# Altium integrated library ON Semi General Purpose Transistors.IntLib: 1679 symbols (part 22 of 36)
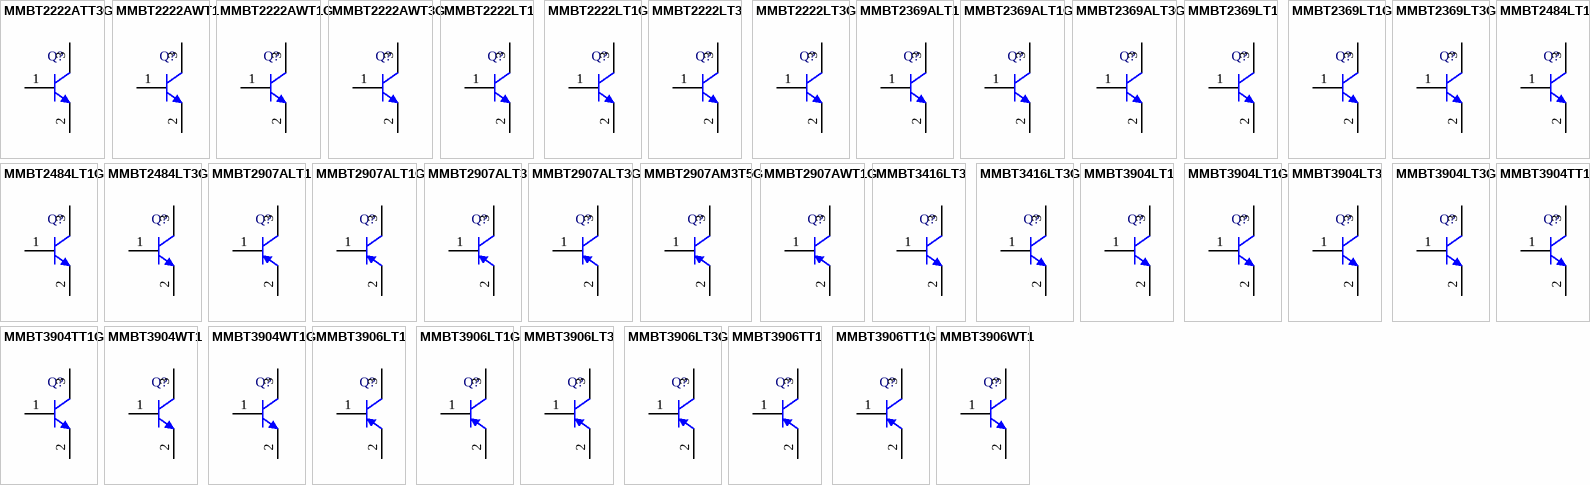
[diagram p66: symbols MMBT2222ATT3G to MMBT3906WT1]

## MMBT2222AWT3G
designator Q?
General Purpose Transistor, NPN Silicon, 3-Pin SC70, Pb-Free, Tape and Reel; Manufacturer: On Semiconductor; PartNumber: MMBT2222AWT3G; fT Min (MHz): 300; IC Continuous (A): 0.6; DatasheetVersion: Rev. 6; PackageVersion: Rev. N, 11/2008; PackageReference: SC-70-3-419-04; PackageDescription: 3-Pin Small Outline Transistor, Body 2 x 1.25 mm, Pitch 0.65 mm; Supplier 1: Digi-Key; Supplier Part Number 1: MMBT2222AWT3G-ND; Supplier 2: Mouser; Supplier Part Number 2: 863-MMBT2222AWT3G; Packing: Tape and Reel; Polarity: NPN; RoHS: TRUE; Mounting Technology: Surface Mount; ComponentLink1Description: Manufacturer URL; ComponentLink1URL: http://www.onsemi.com/; ComponentLink2Description: Datasheet; ComponentLink2URL: http://www.onsemi.cn/pub_link/Collateral/MMBT2222AWT1-D.PDF; ComponentLink3Description: Package Specification; ComponentLink3URL: http://www.onsemi.cn/pub_link/Collateral/419-04.PDF
footprint ONSC-SC-70-3-419-04_V (SOT23, 3-Leads, Body 2x1.25mm, Pitch 0.65mm)
pins: 1 B, 2 E, 3 C

## MMBT2222LT1
designator Q?
General Purpose Transistor, NPN Silicon, 3-Pin SOT-23, Tape and Reel; Manufacturer: On Semiconductor; PartNumber: MMBT2222LT1; fT Min (MHz): 250; IC Continuous (A): 0.6; DatasheetVersion: Rev. 10; PackageVersion: Rev. AP, 11/2009; PackageReference: SOT-23-3-318-08; PackageDescription: 3-Pin Small Outline Transistor, Body 2.92 x 1.3 mm, Pitch 0.95 mm; Supplier 1: Digi-Key; Supplier Part Number 1: MMBT2222LT1OSCT-ND; Packing: Tape and Reel; Polarity: NPN; RoHS: FALSE; Mounting Technology: Surface Mount; ComponentLink1Description: Manufacturer URL; ComponentLink1URL: http://www.onsemi.com/; ComponentLink2Description: Datasheet; ComponentLink2URL: http://www.onsemi.cn/pub_link/Collateral/MMBT2222LT1-D.PDF; ComponentLink3Description: Package Specification; ComponentLink3URL: http://www.onsemi.cn/pub_link/Collateral/318-08.PDF
footprint ONSC-SOT-23-3-318-08_V (SOT23, 3-Leads, Body 2.92x1.3mm, Pitch 0.95mm)
pins: 1 B, 2 E, 3 C

## MMBT2222LT1G
designator Q?
General Purpose Transistor, NPN Silicon, 3-Pin SOT-23, Pb-Free, Tape and Reel; Manufacturer: On Semiconductor; PartNumber: MMBT2222LT1G; fT Min (MHz): 250; IC Continuous (A): 0.6; DatasheetVersion: Rev. 10; PackageVersion: Rev. AP, 11/2009; PackageReference: SOT-23-3-318-08; PackageDescription: 3-Pin Small Outline Transistor, Body 2.92 x 1.3 mm, Pitch 0.95 mm; Supplier 1: Digi-Key; Supplier Part Number 1: MMBT2222LT1GOSTR-ND; Supplier 2: Digi-Key; Supplier Part Number 2: MMBT2222LT1GOSCT-ND; Supplier 3: Digi-Key; Supplier Part Number 3: MMBT2222LT1GOSDKR-ND; Supplier 4: Farnell; Supplier Part Number 4: 2317832; Supplier 5: Newark; Supplier Part Number 5: 45J1530; Supplier 6: Newark; Supplier Part Number 6: 67R1336; Supplier 7: Mouser; Supplier Part Number 7: 863-MMBT2222LT1G; Packing: Tape and Reel; Polarity: NPN; RoHS: TRUE; Mounting Technology: Surface Mount; ComponentLink1Description: Manufacturer URL; ComponentLink1URL: http://www.onsemi.com/; ComponentLink2Description: Datasheet; ComponentLink2URL: http://www.onsemi.cn/pub_link/Collateral/MMBT2222LT1-D.PDF; ComponentLink3Description: Package Specification; ComponentLink3URL: http://www.onsemi.cn/pub_link/Collateral/318-08.PDF
footprint ONSC-SOT-23-3-318-08_V (SOT23, 3-Leads, Body 2.92x1.3mm, Pitch 0.95mm)
pins: 1 B, 2 E, 3 C

## MMBT2222LT3
designator Q?
General Purpose Transistor, NPN Silicon, 3-Pin SOT-23, Tape and Reel; Manufacturer: On Semiconductor; PartNumber: MMBT2222LT3; fT Min (MHz): 250; IC Continuous (A): 0.6; DatasheetVersion: Rev. 10; PackageVersion: Rev. AP, 11/2009; PackageReference: SOT-23-3-318-08; PackageDescription: 3-Pin Small Outline Transistor, Body 2.92 x 1.3 mm, Pitch 0.95 mm; Supplier 1: Digi-Key; Supplier Part Number 1: MMBT2222LT3-ND; Supplier 2: Mouser; Supplier Part Number 2: 863-MMBT2222LT3; Packing: Tape and Reel; Polarity: NPN; RoHS: FALSE; Mounting Technology: Surface Mount; ComponentLink1Description: Manufacturer URL; ComponentLink1URL: http://www.onsemi.com/; ComponentLink2Description: Datasheet; ComponentLink2URL: http://www.onsemi.cn/pub_link/Collateral/MMBT2222LT1-D.PDF; ComponentLink3Description: Package Specification; ComponentLink3URL: http://www.onsemi.cn/pub_link/Collateral/318-08.PDF
footprint ONSC-SOT-23-3-318-08_V (SOT23, 3-Leads, Body 2.92x1.3mm, Pitch 0.95mm)
pins: 1 B, 2 E, 3 C

## MMBT2222LT3G
designator Q?
General Purpose Transistor, NPN Silicon, 3-Pin SOT-23, Pb-Free, Tape and Reel; Manufacturer: On Semiconductor; PartNumber: MMBT2222LT3G; fT Min (MHz): 250; IC Continuous (A): 0.6; DatasheetVersion: Rev. 10; PackageVersion: Rev. AP, 11/2009; PackageReference: SOT-23-3-318-08; PackageDescription: 3-Pin Small Outline Transistor, Body 2.92 x 1.3 mm, Pitch 0.95 mm; Supplier 1: Digi-Key; Supplier Part Number 1: MMBT2222LT3G-ND; Supplier 2: Mouser; Supplier Part Number 2: 863-MMBT2222LT3G; Packing: Tape and Reel; Polarity: NPN; RoHS: TRUE; Mounting Technology: Surface Mount; ComponentLink1Description: Manufacturer URL; ComponentLink1URL: http://www.onsemi.com/; ComponentLink2Description: Datasheet; ComponentLink2URL: http://www.onsemi.cn/pub_link/Collateral/MMBT2222LT1-D.PDF; ComponentLink3Description: Package Specification; ComponentLink3URL: http://www.onsemi.cn/pub_link/Collateral/318-08.PDF
footprint ONSC-SOT-23-3-318-08_V (SOT23, 3-Leads, Body 2.92x1.3mm, Pitch 0.95mm)
pins: 1 B, 2 E, 3 C

## MMBT2369ALT1
designator Q?
Switching Transistor, NPN Silicon, 3-Pin SOT-23, Tape and Reel; Manufacturer: On Semiconductor; PartNumber: MMBT2369ALT1; IC Continuous (A): 0.2; DatasheetVersion: Rev. 8; PackageVersion: Rev. AP, 11/2009; PackageReference: SOT-23-3-318-08; PackageDescription: 3-Pin Small Outline Transistor, Body 2.92 x 1.3 mm, Pitch 0.95 mm; Supplier 1: Digi-Key; Supplier Part Number 1: MMBT2369ALT1OSCT-ND; Packing: Tape and Reel; Polarity: NPN; RoHS: FALSE; Mounting Technology: Surface Mount; ComponentLink1Description: Manufacturer URL; ComponentLink1URL: http://www.onsemi.com/; ComponentLink2Description: Datasheet; ComponentLink2URL: http://www.onsemi.cn/pub_link/Collateral/MMBT2369LT1-D.PDF; ComponentLink3Description: Package Specification; ComponentLink3URL: http://www.onsemi.cn/pub_link/Collateral/318-08.PDF
footprint ONSC-SOT-23-3-318-08_V (SOT23, 3-Leads, Body 2.92x1.3mm, Pitch 0.95mm)
pins: 1 B, 2 E, 3 C

## MMBT2369ALT1G
designator Q?
Switching Transistor, NPN Silicon, 3-Pin SOT-23, Pb-Free, Tape and Reel; Manufacturer: On Semiconductor; PartNumber: MMBT2369ALT1G; IC Continuous (A): 0.2; DatasheetVersion: Rev. 8; PackageVersion: Rev. AP, 11/2009; PackageReference: SOT-23-3-318-08; PackageDescription: 3-Pin Small Outline Transistor, Body 2.92 x 1.3 mm, Pitch 0.95 mm; Supplier 1: Digi-Key; Supplier Part Number 1: MMBT2369ALT1GOSTR-ND; Supplier 2: Digi-Key; Supplier Part Number 2: MMBT2369ALT1GOSCT-ND; Supplier 3: Digi-Key; Supplier Part Number 3: MMBT2369ALT1GOSDKR-ND; Supplier 4: Farnell; Supplier Part Number 4: 1653624RL; Supplier 5: Farnell; Supplier Part Number 5: 1653624; Supplier 6: Farnell; Supplier Part Number 6: 2370818; Supplier 7: Newark; Supplier Part Number 7: 67R1337; Supplier 8: Newark; Supplier Part Number 8: 98H0749; Supplier 9: Mouser; Supplier Part Number 9: 863-MMBT2369ALT1G; Packing: Tape and Reel; Polarity: NPN; RoHS: TRUE; Mounting Technology: Surface Mount; ComponentLink1Description: Manufacturer URL; ComponentLink1URL: http://www.onsemi.com/; ComponentLink2Description: Datasheet; ComponentLink2URL: http://www.onsemi.cn/pub_link/Collateral/MMBT2369LT1-D.PDF; ComponentLink3Description: Package Specification; ComponentLink3URL: http://www.onsemi.cn/pub_link/Collateral/318-08.PDF
footprint ONSC-SOT-23-3-318-08_V (SOT23, 3-Leads, Body 2.92x1.3mm, Pitch 0.95mm)
pins: 1 B, 2 E, 3 C

## MMBT2369ALT3G
designator Q?
Switching Transistor, NPN Silicon, 3-Pin SOT-23, Pb-Free, Tape and Reel; Manufacturer: On Semiconductor; PartNumber: MMBT2369ALT3G; IC Continuous (A): 0.2; DatasheetVersion: Rev. 8; PackageVersion: Rev. AP, 11/2009; PackageReference: SOT-23-3-318-08; PackageDescription: 3-Pin Small Outline Transistor, Body 2.92 x 1.3 mm, Pitch 0.95 mm; Supplier 1: Digi-Key; Supplier Part Number 1: MMBT2369ALT3G-ND; Supplier 2: Mouser; Supplier Part Number 2: 863-MMBT2369ALT3G; Packing: Tape and Reel; Polarity: NPN; RoHS: TRUE; Mounting Technology: Surface Mount; ComponentLink1Description: Manufacturer URL; ComponentLink1URL: http://www.onsemi.com/; ComponentLink2Description: Datasheet; ComponentLink2URL: http://www.onsemi.cn/pub_link/Collateral/MMBT2369LT1-D.PDF; ComponentLink3Description: Package Specification; ComponentLink3URL: http://www.onsemi.cn/pub_link/Collateral/318-08.PDF
footprint ONSC-SOT-23-3-318-08_V (SOT23, 3-Leads, Body 2.92x1.3mm, Pitch 0.95mm)
pins: 1 B, 2 E, 3 C

## MMBT2369LT1
designator Q?
Switching Transistor, NPN Silicon, 3-Pin SOT-23, Tape and Reel; Manufacturer: On Semiconductor; PartNumber: MMBT2369LT1; IC Continuous (A): 0.2; DatasheetVersion: Rev. 8; PackageVersion: Rev. AP, 11/2009; PackageReference: SOT-23-3-318-08; PackageDescription: 3-Pin Small Outline Transistor, Body 2.92 x 1.3 mm, Pitch 0.95 mm; Supplier 1: Digi-Key; Supplier Part Number 1: MMBT2369LT1OSCT-ND; Packing: Tape and Reel; Polarity: NPN; RoHS: FALSE; Mounting Technology: Surface Mount; ComponentLink1Description: Manufacturer URL; ComponentLink1URL: http://www.onsemi.com/; ComponentLink2Description: Datasheet; ComponentLink2URL: http://www.onsemi.cn/pub_link/Collateral/MMBT2369LT1-D.PDF; ComponentLink3Description: Package Specification; ComponentLink3URL: http://www.onsemi.cn/pub_link/Collateral/318-08.PDF
footprint ONSC-SOT-23-3-318-08_V (SOT23, 3-Leads, Body 2.92x1.3mm, Pitch 0.95mm)
pins: 1 B, 2 E, 3 C

## MMBT2369LT1G
designator Q?
Switching Transistor, NPN Silicon, 3-Pin SOT-23, Pb-Free, Tape and Reel; Manufacturer: On Semiconductor; PartNumber: MMBT2369LT1G; IC Continuous (A): 0.2; DatasheetVersion: Rev. 8; PackageVersion: Rev. AP, 11/2009; PackageReference: SOT-23-3-318-08; PackageDescription: 3-Pin Small Outline Transistor, Body 2.92 x 1.3 mm, Pitch 0.95 mm; Supplier 1: Digi-Key; Supplier Part Number 1: MMBT2369LT1GOSTR-ND; Supplier 2: Digi-Key; Supplier Part Number 2: MMBT2369LT1GOSCT-ND; Supplier 3: Digi-Key; Supplier Part Number 3: MMBT2369LT1GOSDKR-ND; Supplier 4: Farnell; Supplier Part Number 4: 1147820; Supplier 5: Newark; Supplier Part Number 5: 45J1532; Supplier 6: Mouser; Supplier Part Number 6: 863-MMBT2369LT1G; Packing: Tape and Reel; Polarity: NPN; RoHS: TRUE; Mounting Technology: Surface Mount; ComponentLink1Description: Manufacturer URL; ComponentLink1URL: http://www.onsemi.com/; ComponentLink2Description: Datasheet; ComponentLink2URL: http://www.onsemi.cn/pub_link/Collateral/MMBT2369LT1-D.PDF; ComponentLink3Description: Package Specification; ComponentLink3URL: http://www.onsemi.cn/pub_link/Collateral/318-08.PDF
footprint ONSC-SOT-23-3-318-08_V (SOT23, 3-Leads, Body 2.92x1.3mm, Pitch 0.95mm)
pins: 1 B, 2 E, 3 C

## MMBT2369LT3G
designator Q?
Switching Transistor, NPN Silicon, 3-Pin SOT-23, Pb-Free, Tape and Reel; Manufacturer: On Semiconductor; PartNumber: MMBT2369LT3G; IC Continuous (A): 0.2; DatasheetVersion: Rev. 8; PackageVersion: Rev. AP, 11/2009; PackageReference: SOT-23-3-318-08; PackageDescription: 3-Pin Small Outline Transistor, Body 2.92 x 1.3 mm, Pitch 0.95 mm; Supplier 1: Digi-Key; Supplier Part Number 1: MMBT2369LT3G-ND; Supplier 2: Newark; Supplier Part Number 2: 16M4500; Supplier 3: Mouser; Supplier Part Number 3: 863-MMBT2369LT3G; Packing: Tape and Reel; Polarity: NPN; RoHS: TRUE; Mounting Technology: Surface Mount; ComponentLink1Description: Manufacturer URL; ComponentLink1URL: http://www.onsemi.com/; ComponentLink2Description: Datasheet; ComponentLink2URL: http://www.onsemi.cn/pub_link/Collateral/MMBT2369LT1-D.PDF; ComponentLink3Description: Package Specification; ComponentLink3URL: http://www.onsemi.cn/pub_link/Collateral/318-08.PDF
footprint ONSC-SOT-23-3-318-08_V (SOT23, 3-Leads, Body 2.92x1.3mm, Pitch 0.95mm)
pins: 1 B, 2 E, 3 C

## MMBT2484LT1
designator Q?
Low Noise Transistor, NPN Silicon, 3-Pin SOT-23, Tape and Reel; Manufacturer: On Semiconductor; PartNumber: MMBT2484LT1; IC Continuous (A): 0.1; DatasheetVersion: Rev. 4; PackageVersion: Rev. AP, 11/2009; PackageReference: SOT-23-3-318-08; PackageDescription: 3-Pin Small Outline Transistor, Body 2.92 x 1.3 mm, Pitch 0.95 mm; Supplier 1: Digi-Key; Supplier Part Number 1: MMBT2484LT1OSCT-ND; Packing: Tape and Reel; Polarity: NPN; RoHS: FALSE; Mounting Technology: Surface Mount; ComponentLink1Description: Manufacturer URL; ComponentLink1URL: http://www.onsemi.com/; ComponentLink2Description: Datasheet; ComponentLink2URL: http://www.onsemi.cn/pub_link/Collateral/MMBT2484LT1-D.PDF; ComponentLink3Description: Package Specification; ComponentLink3URL: http://www.onsemi.cn/pub_link/Collateral/318-08.PDF
footprint ONSC-SOT-23-3-318-08_V (SOT23, 3-Leads, Body 2.92x1.3mm, Pitch 0.95mm)
pins: 1 B, 2 E, 3 C

## MMBT2484LT1G
designator Q?
Low Noise Transistor, NPN Silicon, 3-Pin SOT-23, Pb-Free, Tape and Reel; Manufacturer: On Semiconductor; PartNumber: MMBT2484LT1G; IC Continuous (A): 0.1; DatasheetVersion: Rev. 4; PackageVersion: Rev. AP, 11/2009; PackageReference: SOT-23-3-318-08; PackageDescription: 3-Pin Small Outline Transistor, Body 2.92 x 1.3 mm, Pitch 0.95 mm; Supplier 1: Digi-Key; Supplier Part Number 1: MMBT2484LT1GOSTR-ND; Supplier 2: Digi-Key; Supplier Part Number 2: MMBT2484LT1GOSCT-ND; Supplier 3: Digi-Key; Supplier Part Number 3: MMBT2484LT1GOSDKR-ND; Supplier 4: Farnell; Supplier Part Number 4: 1150473; Supplier 5: Newark; Supplier Part Number 5: 45J1533; Supplier 6: Mouser; Supplier Part Number 6: 863-MMBT2484LT1G; Packing: Tape and Reel; Polarity: NPN; RoHS: TRUE; Mounting Technology: Surface Mount; ComponentLink1Description: Manufacturer URL; ComponentLink1URL: http://www.onsemi.com/; ComponentLink2Description: Datasheet; ComponentLink2URL: http://www.onsemi.cn/pub_link/Collateral/MMBT2484LT1-D.PDF; ComponentLink3Description: Package Specification; ComponentLink3URL: http://www.onsemi.cn/pub_link/Collateral/318-08.PDF
footprint ONSC-SOT-23-3-318-08_V (SOT23, 3-Leads, Body 2.92x1.3mm, Pitch 0.95mm)
pins: 1 B, 2 E, 3 C

## MMBT2484LT3G
designator Q?
Low Noise Transistor, NPN Silicon, 3-Pin SOT-23, Pb-Free, Tape and Reel; Manufacturer: On Semiconductor; PartNumber: MMBT2484LT3G; IC Continuous (A): 0.1; DatasheetVersion: Rev. 4; PackageVersion: Rev. AP, 11/2009; PackageReference: SOT-23-3-318-08; PackageDescription: 3-Pin Small Outline Transistor, Body 2.92 x 1.3 mm, Pitch 0.95 mm; Supplier 1: Digi-Key; Supplier Part Number 1: MMBT2484LT3G-ND; Supplier 2: Newark; Supplier Part Number 2: 16M4501; Supplier 3: Mouser; Supplier Part Number 3: 863-MMBT2484LT3G; Packing: Tape and Reel; Polarity: NPN; RoHS: TRUE; Mounting Technology: Surface Mount; ComponentLink1Description: Manufacturer URL; ComponentLink1URL: http://www.onsemi.com/; ComponentLink2Description: Datasheet; ComponentLink2URL: http://www.onsemi.cn/pub_link/Collateral/MMBT2484LT1-D.PDF; ComponentLink3Description: Package Specification; ComponentLink3URL: http://www.onsemi.cn/pub_link/Collateral/318-08.PDF
footprint ONSC-SOT-23-3-318-08_V (SOT23, 3-Leads, Body 2.92x1.3mm, Pitch 0.95mm)
pins: 1 B, 2 E, 3 C

## MMBT2907ALT1
designator Q?
General Purpose Transistor, PNP Silicon, 3-Pin SOT-23, Tape and Reel; Manufacturer: On Semiconductor; PartNumber: MMBT2907ALT1; fT Min (MHz): 200; IC Continuous (A): -0.6; DatasheetVersion: Rev. 13; PackageVersion: Rev. AP, 11/2009; PackageReference: SOT-23-3-318-08; PackageDescription: 3-Pin Small Outline Transistor, Body 2.92 x 1.3 mm, Pitch 0.95 mm; Supplier 1: Digi-Key; Supplier Part Number 1: MMBT2907ALT1OSCT-ND; Packing: Tape and Reel; Polarity: PNP; RoHS: FALSE; Mounting Technology: Surface Mount; ComponentLink1Description: Manufacturer URL; ComponentLink1URL: http://www.onsemi.com/; ComponentLink2Description: Datasheet; ComponentLink2URL: http://www.onsemi.cn/pub_link/Collateral/MMBT2907ALT1-D.PDF; ComponentLink3Description: Package Specification; ComponentLink3URL: http://www.onsemi.cn/pub_link/Collateral/318-08.PDF
footprint ONSC-SOT-23-3-318-08_V (SOT23, 3-Leads, Body 2.92x1.3mm, Pitch 0.95mm)
pins: 1 B, 2 E, 3 C

## MMBT2907ALT1G
designator Q?
General Purpose Transistor, PNP Silicon, 3-Pin SOT-23, Pb-Free, Tape and Reel; Manufacturer: On Semiconductor; PartNumber: MMBT2907ALT1G; fT Min (MHz): 200; IC Continuous (A): -0.6; DatasheetVersion: Rev. 13; PackageVersion: Rev. AP, 11/2009; PackageReference: SOT-23-3-318-08; PackageDescription: 3-Pin Small Outline Transistor, Body 2.92 x 1.3 mm, Pitch 0.95 mm; Supplier 1: Digi-Key; Supplier Part Number 1: MMBT2907ALT1GOSTR-ND; Supplier 2: Digi-Key; Supplier Part Number 2: MMBT2907ALT1GOSCT-ND; Supplier 3: Digi-Key; Supplier Part Number 3: MMBT2907ALT1GOSDKR-ND; Supplier 4: Farnell; Supplier Part Number 4: 1459099; Supplier 5: Farnell; Supplier Part Number 5: 1459099RL; Supplier 6: Farnell; Supplier Part Number 6: 2317920; Supplier 7: Newark; Supplier Part Number 7: 88H4785; Supplier 8: Newark; Supplier Part Number 8: 67R1338; Supplier 9: Mouser; Supplier Part Number 9: 863-MMBT2907ALT1G; Packing: Tape and Reel; Polarity: PNP; RoHS: TRUE; Mounting Technology: Surface Mount; ComponentLink1Description: Manufacturer URL; ComponentLink1URL: http://www.onsemi.com/; ComponentLink2Description: Datasheet; ComponentLink2URL: http://www.onsemi.cn/pub_link/Collateral/MMBT2907ALT1-D.PDF; ComponentLink3Description: Package Specification; ComponentLink3URL: http://www.onsemi.cn/pub_link/Collateral/318-08.PDF
footprint ONSC-SOT-23-3-318-08_V (SOT23, 3-Leads, Body 2.92x1.3mm, Pitch 0.95mm)
pins: 1 B, 2 E, 3 C

## MMBT2907ALT3
designator Q?
General Purpose Transistor, PNP Silicon, 3-Pin SOT-23, Tape and Reel; Manufacturer: On Semiconductor; PartNumber: MMBT2907ALT3; Note: 0; fT Min (MHz): 200; IC Continuous (A): -0.6; DatasheetVersion: Rev. 13; PackageVersion: Rev. AP, 11/2009; PackageReference: SOT-23-3-318-08; PackageDescription: 3-Pin Small Outline Transistor, Body 2.92 x 1.3 mm, Pitch 0.95 mm; Packing: Tape and Reel; Polarity: PNP; RoHS: FALSE; Mounting Technology: Surface Mount; ComponentLink1Description: Manufacturer URL; ComponentLink1URL: http://www.onsemi.com/; ComponentLink2Description: Datasheet; ComponentLink2URL: http://www.onsemi.cn/pub_link/Collateral/MMBT2907ALT1-D.PDF; ComponentLink3Description: Package Specification; ComponentLink3URL: http://www.onsemi.cn/pub_link/Collateral/318-08.PDF
footprint ONSC-SOT-23-3-318-08_V (SOT23, 3-Leads, Body 2.92x1.3mm, Pitch 0.95mm)
pins: 1 B, 2 E, 3 C

## MMBT2907ALT3G
designator Q?
General Purpose Transistor, PNP Silicon, 3-Pin SOT-23, Pb-Free, Tape and Reel; Manufacturer: On Semiconductor; PartNumber: MMBT2907ALT3G; fT Min (MHz): 200; IC Continuous (A): -0.6; DatasheetVersion: Rev. 13; PackageVersion: Rev. AP, 11/2009; PackageReference: SOT-23-3-318-08; PackageDescription: 3-Pin Small Outline Transistor, Body 2.92 x 1.3 mm, Pitch 0.95 mm; Supplier 1: Digi-Key; Supplier Part Number 1: MMBT2907ALT3GOSTR-ND; Supplier 2: Digi-Key; Supplier Part Number 2: MMBT2907ALT3GOSCT-ND; Supplier 3: Digi-Key; Supplier Part Number 3: MMBT2907ALT3GOSDKR-ND; Supplier 4: Farnell; Supplier Part Number 4: 1887081; Supplier 5: Farnell; Supplier Part Number 5: 2372123; Supplier 6: Newark; Supplier Part Number 6: 88H4786; Supplier 7: Newark; Supplier Part Number 7: 09R9448; Supplier 8: Mouser; Supplier Part Number 8: 863-MMBT2907ALT3G; Packing: Tape and Reel; Polarity: PNP; RoHS: TRUE; Mounting Technology: Surface Mount; ComponentLink1Description: Manufacturer URL; ComponentLink1URL: http://www.onsemi.com/; ComponentLink2Description: Datasheet; ComponentLink2URL: http://www.onsemi.cn/pub_link/Collateral/MMBT2907ALT1-D.PDF; ComponentLink3Description: Package Specification; ComponentLink3URL: http://www.onsemi.cn/pub_link/Collateral/318-08.PDF
footprint ONSC-SOT-23-3-318-08_V (SOT23, 3-Leads, Body 2.92x1.3mm, Pitch 0.95mm)
pins: 1 B, 2 E, 3 C

## MMBT2907AM3T5G
designator Q?
PNP General Purpose Transistor, 3-Pin SOT-723, Pb-Free, Tape and Reel; Manufacturer: On Semiconductor; PartNumber: MMBT2907AM3T5G; fT Min (MHz): 200; IC Continuous (A): -0.6; DatasheetVersion: Rev. 0; PackageVersion: Rev. C, 08/2006; PackageReference: SOT-723-3-631AA-01_C; PackageDescription: 3-Pin SOT223, Body 0.8 x 1.2 mm, Pitch 0.4 mm; Supplier 1: Digi-Key; Supplier Part Number 1: MMBT2907AM3T5G-ND; Supplier 2: Mouser; Supplier Part Number 2: 863-MMBT2907AM3T5G; Packing: Tape and Reel; Polarity: PNP; RoHS: TRUE; Mounting Technology: Surface Mount; ComponentLink1Description: Manufacturer URL; ComponentLink1URL: http://www.onsemi.com/; ComponentLink2Description: Datasheet; ComponentLink2URL: http://www.onsemi.cn/pub_link/Collateral/MMBT2907AM3-D.PDF; ComponentLink3Description: Package Specification; ComponentLink3URL: http://www.onsemi.cn/pub_link/Collateral/BAT54M3-D.PDF
footprint ONSC-SOT-723-3-631AA-01_C_V (SOT23, 3-Leads, Body 1.25x0.85mm, Pitch 0.4mm)
pins: 1 B, 2 E, 3 C

## MMBT2907AWT1G
designator Q?
General Purpose Transistor, PNP Silicon, 3-Pin SC70, Pb-Free, Tape and Reel; Manufacturer: On Semiconductor; PartNumber: MMBT2907AWT1G; fT Min (MHz): 200; IC Continuous (A): -0.6; DatasheetVersion: Rev. 6; PackageVersion: Rev. N, 11/2008; PackageReference: SC-70-3-419-04; PackageDescription: 3-Pin Small Outline Transistor, Body 2 x 1.25 mm, Pitch 0.65 mm; Supplier 1: Digi-Key; Supplier Part Number 1: MMBT2907AWT1GOSTR-ND; Supplier 2: Digi-Key; Supplier Part Number 2: MMBT2907AWT1GOSCT-ND; Supplier 3: Digi-Key; Supplier Part Number 3: MMBT2907AWT1GOSDKR-ND; Supplier 4: Farnell; Supplier Part Number 4: 2317593; Supplier 5: Farnell; Supplier Part Number 5: 2317861; Supplier 6: Newark; Supplier Part Number 6: 98H0750; Supplier 7: Newark; Supplier Part Number 7: 84K8796; Supplier 8: Mouser; Supplier Part Number 8: 863-MMBT2907AWT1G; Packing: Tape and Reel; Polarity: PNP; RoHS: TRUE; Mounting Technology: Surface Mount; ComponentLink1Description: Manufacturer URL; ComponentLink1URL: http://www.onsemi.com/; ComponentLink2Description: Datasheet; ComponentLink2URL: http://www.onsemi.cn/pub_link/Collateral/MMBT2907AWT1-D.PDF; ComponentLink3Description: Package Specification; ComponentLink3URL: http://www.onsemi.cn/pub_link/Collateral/419-04.PDF
footprint ONSC-SC-70-3-419-04_V (SOT23, 3-Leads, Body 2x1.25mm, Pitch 0.65mm)
pins: 1 B, 2 E, 3 C

## MMBT3416LT3
designator Q?
General Purpose Amplifier, NPN Silicon, 3-Pin SOT-23, Tape and Reel; Manufacturer: On Semiconductor; PartNumber: MMBT3416LT3; Note: 0; IC Continuous (A): 0.1; DatasheetVersion: Rev. 2; PackageVersion: Rev. AP, 11/2009; PackageReference: SOT-23-3-318-08; PackageDescription: 3-Pin Small Outline Transistor, Body 2.92 x 1.3 mm, Pitch 0.95 mm; Packing: Tape and Reel; Polarity: NPN; RoHS: FALSE; Mounting Technology: Surface Mount; ComponentLink1Description: Manufacturer URL; ComponentLink1URL: http://www.onsemi.com/; ComponentLink2Description: Datasheet; ComponentLink2URL: http://www.onsemi.cn/pub_link/Collateral/MMBT3416LT3-D.PDF; ComponentLink3Description: Package Specification; ComponentLink3URL: http://www.onsemi.cn/pub_link/Collateral/318-08.PDF
footprint ONSC-SOT-23-3-318-08_V (SOT23, 3-Leads, Body 2.92x1.3mm, Pitch 0.95mm)
pins: 1 B, 2 E, 3 C

## MMBT3416LT3G
designator Q?
General Purpose Amplifier, NPN Silicon, 3-Pin SOT-23, Pb-Free, Tape and Reel; Manufacturer: On Semiconductor; PartNumber: MMBT3416LT3G; IC Continuous (A): 0.1; DatasheetVersion: Rev. 2; PackageVersion: Rev. AP, 11/2009; PackageReference: SOT-23-3-318-08; PackageDescription: 3-Pin Small Outline Transistor, Body 2.92 x 1.3 mm, Pitch 0.95 mm; Supplier 1: Digi-Key; Supplier Part Number 1: MMBT3416LT3G-ND; Supplier 2: Mouser; Supplier Part Number 2: 863-MMBT3416LT3G; Packing: Tape and Reel; Polarity: NPN; RoHS: TRUE; Mounting Technology: Surface Mount; ComponentLink1Description: Manufacturer URL; ComponentLink1URL: http://www.onsemi.com/; ComponentLink2Description: Datasheet; ComponentLink2URL: http://www.onsemi.cn/pub_link/Collateral/MMBT3416LT3-D.PDF; ComponentLink3Description: Package Specification; ComponentLink3URL: http://www.onsemi.cn/pub_link/Collateral/318-08.PDF
footprint ONSC-SOT-23-3-318-08_V (SOT23, 3-Leads, Body 2.92x1.3mm, Pitch 0.95mm)
pins: 1 B, 2 E, 3 C

## MMBT3904LT1
designator Q?
General Purpose Transistor, NPN Silicon, 3-Pin SOT-23, Tape and Reel; Manufacturer: On Semiconductor; PartNumber: MMBT3904LT1; fT Min (MHz): 300; IC Continuous (A): 0.2; DatasheetVersion: Rev. 12; PackageVersion: Rev. AP, 11/2009; PackageReference: SOT-23-3-318-08; PackageDescription: 3-Pin Small Outline Transistor, Body 2.92 x 1.3 mm, Pitch 0.95 mm; Supplier 1: Digi-Key; Supplier Part Number 1: MMBT3904LT1OSCT-ND; Packing: Tape and Reel; Polarity: NPN; RoHS: FALSE; Mounting Technology: Surface Mount; ComponentLink1Description: Manufacturer URL; ComponentLink1URL: http://www.onsemi.com/; ComponentLink2Description: Datasheet; ComponentLink2URL: http://www.onsemi.cn/pub_link/Collateral/MMBT3904LT1-D.PDF; ComponentLink3Description: Package Specification; ComponentLink3URL: http://www.onsemi.cn/pub_link/Collateral/318-08.PDF
footprint ONSC-SOT-23-3-318-08_V (SOT23, 3-Leads, Body 2.92x1.3mm, Pitch 0.95mm)
pins: 1 B, 2 E, 3 C

## MMBT3904LT1G
designator Q?
General Purpose Transistor, NPN Silicon, 3-Pin SOT-23, Pb-Free, Tape and Reel; Manufacturer: On Semiconductor; PartNumber: MMBT3904LT1G; fT Min (MHz): 300; IC Continuous (A): 0.2; DatasheetVersion: Rev. 12; PackageVersion: Rev. AP, 11/2009; PackageReference: SOT-23-3-318-08; PackageDescription: 3-Pin Small Outline Transistor, Body 2.92 x 1.3 mm, Pitch 0.95 mm; Supplier 1: Digi-Key; Supplier Part Number 1: MMBT3904LT1GOSTR-ND; Supplier 2: Digi-Key; Supplier Part Number 2: MMBT3904LT1GOSCT-ND; Supplier 3: Digi-Key; Supplier Part Number 3: MMBT3904LT1GOSDKR-ND; Supplier 4: Farnell; Supplier Part Number 4: 2317804; Supplier 5: Farnell; Supplier Part Number 5: 1459100; Supplier 6: Farnell; Supplier Part Number 6: 1459100RL; Supplier 7: Newark; Supplier Part Number 7: 83K0942; Supplier 8: Newark; Supplier Part Number 8: 83H7337; Supplier 9: Newark; Supplier Part Number 9: 28X7922; Supplier 10: Mouser; Supplier Part Number 10: 863-MMBT3904LT1G; Packing: Tape and Reel; Polarity: NPN; RoHS: TRUE; Mounting Technology: Surface Mount; ComponentLink1Description: Manufacturer URL; ComponentLink1URL: http://www.onsemi.com/; ComponentLink2Description: Datasheet; ComponentLink2URL: http://www.onsemi.cn/pub_link/Collateral/MMBT3904LT1-D.PDF; ComponentLink3Description: Package Specification; ComponentLink3URL: http://www.onsemi.cn/pub_link/Collateral/318-08.PDF
footprint ONSC-SOT-23-3-318-08_V (SOT23, 3-Leads, Body 2.92x1.3mm, Pitch 0.95mm)
pins: 1 B, 2 E, 3 C

## MMBT3904LT3
designator Q?
General Purpose Transistor, NPN Silicon, 3-Pin SOT-23, Tape and Reel; Manufacturer: On Semiconductor; PartNumber: MMBT3904LT3; fT Min (MHz): 300; IC Continuous (A): 0.2; DatasheetVersion: Rev. 12; PackageVersion: Rev. AP, 11/2009; PackageReference: SOT-23-3-318-08; PackageDescription: 3-Pin Small Outline Transistor, Body 2.92 x 1.3 mm, Pitch 0.95 mm; Supplier 1: Digi-Key; Supplier Part Number 1: MMBT3904LT3OSCT-ND; Packing: Tape and Reel; Polarity: NPN; RoHS: FALSE; Mounting Technology: Surface Mount; ComponentLink1Description: Manufacturer URL; ComponentLink1URL: http://www.onsemi.com/; ComponentLink2Description: Datasheet; ComponentLink2URL: http://www.onsemi.cn/pub_link/Collateral/MMBT3904LT1-D.PDF; ComponentLink3Description: Package Specification; ComponentLink3URL: http://www.onsemi.cn/pub_link/Collateral/318-08.PDF
footprint ONSC-SOT-23-3-318-08_V (SOT23, 3-Leads, Body 2.92x1.3mm, Pitch 0.95mm)
pins: 1 B, 2 E, 3 C

## MMBT3904LT3G
designator Q?
General Purpose Transistor, NPN Silicon, 3-Pin SOT-23, Pb-Free, Tape and Reel; Manufacturer: On Semiconductor; PartNumber: MMBT3904LT3G; fT Min (MHz): 300; IC Continuous (A): 0.2; DatasheetVersion: Rev. 12; PackageVersion: Rev. AP, 11/2009; PackageReference: SOT-23-3-318-08; PackageDescription: 3-Pin Small Outline Transistor, Body 2.92 x 1.3 mm, Pitch 0.95 mm; Supplier 1: Digi-Key; Supplier Part Number 1: MMBT3904LT3GOSTR-ND; Supplier 2: Digi-Key; Supplier Part Number 2: MMBT3904LT3GOSCT-ND; Supplier 3: Digi-Key; Supplier Part Number 3: MMBT3904LT3GOSDKR-ND; Supplier 4: Farnell; Supplier Part Number 4: 1287979; Supplier 5: Newark; Supplier Part Number 5: 98H0751; Supplier 6: Mouser; Supplier Part Number 6: 863-MMBT3904LT3G; Packing: Tape and Reel; Polarity: NPN; RoHS: TRUE; Mounting Technology: Surface Mount; ComponentLink1Description: Manufacturer URL; ComponentLink1URL: http://www.onsemi.com/; ComponentLink2Description: Datasheet; ComponentLink2URL: http://www.onsemi.cn/pub_link/Collateral/MMBT3904LT1-D.PDF; ComponentLink3Description: Package Specification; ComponentLink3URL: http://www.onsemi.cn/pub_link/Collateral/318-08.PDF
footprint ONSC-SOT-23-3-318-08_V (SOT23, 3-Leads, Body 2.92x1.3mm, Pitch 0.95mm)
pins: 1 B, 2 E, 3 C

## MMBT3904TT1
designator Q?
General Purpose Transistor, NPN Silicon, 3-Pin SC-75, Tape and Reel; Manufacturer: On Semiconductor; PartNumber: MMBT3904TT1; fT Min (MHz): 300; IC Continuous (A): 0.2; DatasheetVersion: Rev. 5; PackageVersion: Rev. F, 07/2005; PackageReference: SC-75-3-463-01; PackageDescription: 3-Pin Small Outline Transistor, Body 1.6 x 0.8 mm, Pitch 0.5 mm; Supplier 1: Digi-Key; Supplier Part Number 1: MMBT3904TT1OSCT-ND; Packing: Tape and Reel; Polarity: NPN; RoHS: FALSE; Mounting Technology: Surface Mount; ComponentLink1Description: Manufacturer URL; ComponentLink1URL: http://www.onsemi.com/; ComponentLink2Description: Datasheet; ComponentLink2URL: http://www.onsemi.cn/pub_link/Collateral/MMBT3904TT1-D.PDF; ComponentLink3Description: Package Specification; ComponentLink3URL: http://www.onsemi.com/pub_link/Collateral/463-01.PDF
footprint ONSC-SC-75-3-463-01_V (SOT23, 3-Leads, Body 1.6x0.8mm, Pitch 0.5mm)
pins: 1 B, 2 E, 3 C

## MMBT3904TT1G
designator Q?
General Purpose Transistor, NPN Silicon, 3-Pin SC-75, Pb-Free, Tape and Reel; Manufacturer: On Semiconductor; PartNumber: MMBT3904TT1G; fT Min (MHz): 300; IC Continuous (A): 0.2; DatasheetVersion: Rev. 5; PackageVersion: Rev. F, 07/2005; PackageReference: SC-75-3-463-01; PackageDescription: 3-Pin Small Outline Transistor, Body 1.6 x 0.8 mm, Pitch 0.5 mm; Supplier 1: Digi-Key; Supplier Part Number 1: MMBT3904TT1GOSTR-ND; Supplier 2: Digi-Key; Supplier Part Number 2: MMBT3904TT1GOSCT-ND; Supplier 3: Digi-Key; Supplier Part Number 3: MMBT3904TT1GOSDKR-ND; Supplier 4: Farnell; Supplier Part Number 4: 2317833; Supplier 5: Newark; Supplier Part Number 5: 88H4787; Supplier 6: Newark; Supplier Part Number 6: 85W3166; Supplier 7: Mouser; Supplier Part Number 7: 863-MMBT3904TT1G; Packing: Tape and Reel; Polarity: NPN; RoHS: TRUE; Mounting Technology: Surface Mount; ComponentLink1Description: Manufacturer URL; ComponentLink1URL: http://www.onsemi.com/; ComponentLink2Description: Datasheet; ComponentLink2URL: http://www.onsemi.cn/pub_link/Collateral/MMBT3904TT1-D.PDF; ComponentLink3Description: Package Specification; ComponentLink3URL: http://www.onsemi.com/pub_link/Collateral/463-01.PDF
footprint ONSC-SC-75-3-463-01_V (SOT23, 3-Leads, Body 1.6x0.8mm, Pitch 0.5mm)
pins: 1 B, 2 E, 3 C

## MMBT3904WT1
designator Q?
General Purpose Transistor, NPN Silicon, 3-Pin SC70, Tape and Reel; Manufacturer: On Semiconductor; PartNumber: MMBT3904WT1; fT Min (MHz): 300; IC Continuous (A): 0.2; DatasheetVersion: Rev. 8; PackageVersion: Rev. N, 11/2008; PackageReference: SC-70-3-419-04; PackageDescription: 3-Pin Small Outline Transistor, Body 2 x 1.25 mm, Pitch 0.65 mm; Supplier 1: Digi-Key; Supplier Part Number 1: MMBT3904WT1OSCT-ND; Packing: Tape and Reel; Polarity: NPN; RoHS: FALSE; Mounting Technology: Surface Mount; ComponentLink1Description: Manufacturer URL; ComponentLink1URL: http://www.onsemi.com/; ComponentLink2Description: Datasheet; ComponentLink2URL: http://www.onsemi.cn/pub_link/Collateral/MMBT3904WT1-D.PDF; ComponentLink3Description: Package Specification; ComponentLink3URL: http://www.onsemi.cn/pub_link/Collateral/419-04.PDF
footprint ONSC-SC-70-3-419-04_V (SOT23, 3-Leads, Body 2x1.25mm, Pitch 0.65mm)
pins: 1 B, 2 E, 3 C

## MMBT3904WT1G
designator Q?
General Purpose Transistor, NPN Silicon, 3-Pin SC70, Pb-Free, Tape and Reel; Manufacturer: On Semiconductor; PartNumber: MMBT3904WT1G; fT Min (MHz): 300; IC Continuous (A): 0.2; DatasheetVersion: Rev. 8; PackageVersion: Rev. N, 11/2008; PackageReference: SC-70-3-419-04; PackageDescription: 3-Pin Small Outline Transistor, Body 2 x 1.25 mm, Pitch 0.65 mm; Supplier 1: Digi-Key; Supplier Part Number 1: MMBT3904WT1GOSTR-ND; Supplier 2: Digi-Key; Supplier Part Number 2: MMBT3904WT1GOSCT-ND; Supplier 3: Digi-Key; Supplier Part Number 3: MMBT3904WT1GOSDKR-ND; Supplier 4: Farnell; Supplier Part Number 4: 1459102; Supplier 5: Farnell; Supplier Part Number 5: 2317829; Supplier 6: Farnell; Supplier Part Number 6: 1459102RL; Supplier 7: Newark; Supplier Part Number 7: 67R1339; Supplier 8: Newark; Supplier Part Number 8: 88H4788; Supplier 9: Mouser; Supplier Part Number 9: 863-MMBT3904WT1G; Packing: Tape and Reel; Polarity: NPN; RoHS: TRUE; Mounting Technology: Surface Mount; ComponentLink1Description: Manufacturer URL; ComponentLink1URL: http://www.onsemi.com/; ComponentLink2Description: Datasheet; ComponentLink2URL: http://www.onsemi.cn/pub_link/Collateral/MMBT3904WT1-D.PDF; ComponentLink3Description: Package Specification; ComponentLink3URL: http://www.onsemi.cn/pub_link/Collateral/419-04.PDF
footprint ONSC-SC-70-3-419-04_V (SOT23, 3-Leads, Body 2x1.25mm, Pitch 0.65mm)
pins: 1 B, 2 E, 3 C

## MMBT3906LT1
designator Q?
General Purpose Transistor, PNP Silicon, 3-Pin SOT-23, Tape and Reel; Manufacturer: On Semiconductor; PartNumber: MMBT3906LT1; fT Min (MHz): 250; IC Continuous (A): -0.2; DatasheetVersion: Rev. 11; PackageVersion: Rev. AP, 11/2009; PackageReference: SOT-23-3-318-08; PackageDescription: 3-Pin Small Outline Transistor, Body 2.92 x 1.3 mm, Pitch 0.95 mm; Supplier 1: Digi-Key; Supplier Part Number 1: MMBT3906LT1OSCT-ND; Packing: Tape and Reel; Polarity: PNP; RoHS: FALSE; Mounting Technology: Surface Mount; ComponentLink1Description: Manufacturer URL; ComponentLink1URL: http://www.onsemi.com/; ComponentLink2Description: Datasheet; ComponentLink2URL: http://www.onsemi.cn/pub_link/Collateral/MMBT3906LT1-D.PDF; ComponentLink3Description: Package Specification; ComponentLink3URL: http://www.onsemi.cn/pub_link/Collateral/318-08.PDF
footprint ONSC-SOT-23-3-318-08_V (SOT23, 3-Leads, Body 2.92x1.3mm, Pitch 0.95mm)
pins: 1 B, 2 E, 3 C

## MMBT3906LT1G
designator Q?
General Purpose Transistor, PNP Silicon, 3-Pin SOT-23, Pb-Free, Tape and Reel; Manufacturer: On Semiconductor; PartNumber: MMBT3906LT1G; fT Min (MHz): 250; IC Continuous (A): -0.2; DatasheetVersion: Rev. 11; PackageVersion: Rev. AP, 11/2009; PackageReference: SOT-23-3-318-08; PackageDescription: 3-Pin Small Outline Transistor, Body 2.92 x 1.3 mm, Pitch 0.95 mm; Supplier 1: Digi-Key; Supplier Part Number 1: MMBT3906LT1GOSTR-ND; Supplier 2: Digi-Key; Supplier Part Number 2: MMBT3906LT1GOSCT-ND; Supplier 3: Digi-Key; Supplier Part Number 3: MMBT3906LT1GOSDKR-ND; Supplier 4: Farnell; Supplier Part Number 4: 1459103RL; Supplier 5: Farnell; Supplier Part Number 5: 1459103; Supplier 6: Farnell; Supplier Part Number 6: 2317872; Supplier 7: Newark; Supplier Part Number 7: 67H6855; Supplier 8: Newark; Supplier Part Number 8: 48K7500; Supplier 9: Newark; Supplier Part Number 9: 28X7923; Supplier 10: Mouser; Supplier Part Number 10: 863-MMBT3906LT1G; Packing: Tape and Reel; Polarity: PNP; RoHS: TRUE; Mounting Technology: Surface Mount; ComponentLink1Description: Manufacturer URL; ComponentLink1URL: http://www.onsemi.com/; ComponentLink2Description: Datasheet; ComponentLink2URL: http://www.onsemi.cn/pub_link/Collateral/MMBT3906LT1-D.PDF; ComponentLink3Description: Package Specification; ComponentLink3URL: http://www.onsemi.cn/pub_link/Collateral/318-08.PDF
footprint ONSC-SOT-23-3-318-08_V (SOT23, 3-Leads, Body 2.92x1.3mm, Pitch 0.95mm)
pins: 1 B, 2 E, 3 C

## MMBT3906LT3
designator Q?
General Purpose Transistor, PNP Silicon, 3-Pin SOT-23, Tape and Reel; Manufacturer: On Semiconductor; PartNumber: MMBT3906LT3; Note: 0; fT Min (MHz): 250; IC Continuous (A): -0.2; DatasheetVersion: Rev. 11; PackageVersion: Rev. AP, 11/2009; PackageReference: SOT-23-3-318-08; PackageDescription: 3-Pin Small Outline Transistor, Body 2.92 x 1.3 mm, Pitch 0.95 mm; Packing: Tape and Reel; Polarity: PNP; RoHS: FALSE; Mounting Technology: Surface Mount; ComponentLink1Description: Manufacturer URL; ComponentLink1URL: http://www.onsemi.com/; ComponentLink2Description: Datasheet; ComponentLink2URL: http://www.onsemi.cn/pub_link/Collateral/MMBT3906LT1-D.PDF; ComponentLink3Description: Package Specification; ComponentLink3URL: http://www.onsemi.cn/pub_link/Collateral/318-08.PDF
footprint ONSC-SOT-23-3-318-08_V (SOT23, 3-Leads, Body 2.92x1.3mm, Pitch 0.95mm)
pins: 1 B, 2 E, 3 C

## MMBT3906LT3G
designator Q?
General Purpose Transistor, PNP Silicon, 3-Pin SOT-23, Pb-Free, Tape and Reel; Manufacturer: On Semiconductor; PartNumber: MMBT3906LT3G; fT Min (MHz): 250; IC Continuous (A): -0.2; DatasheetVersion: Rev. 11; PackageVersion: Rev. AP, 11/2009; PackageReference: SOT-23-3-318-08; PackageDescription: 3-Pin Small Outline Transistor, Body 2.92 x 1.3 mm, Pitch 0.95 mm; Supplier 1: Digi-Key; Supplier Part Number 1: MMBT3906LT3GOSTR-ND; Supplier 2: Digi-Key; Supplier Part Number 2: MMBT3906LT3GOSCT-ND; Supplier 3: Digi-Key; Supplier Part Number 3: MMBT3906LT3GOSDKR-ND; Supplier 4: Farnell; Supplier Part Number 4: 1887082; Supplier 5: Farnell; Supplier Part Number 5: 2372923; Supplier 6: Newark; Supplier Part Number 6: 98H0752; Supplier 7: Newark; Supplier Part Number 7: 09R9450; Supplier 8: Mouser; Supplier Part Number 8: 863-MMBT3906LT3G; Packing: Tape and Reel; Polarity: PNP; RoHS: TRUE; Mounting Technology: Surface Mount; ComponentLink1Description: Manufacturer URL; ComponentLink1URL: http://www.onsemi.com/; ComponentLink2Description: Datasheet; ComponentLink2URL: http://www.onsemi.cn/pub_link/Collateral/MMBT3906LT1-D.PDF; ComponentLink3Description: Package Specification; ComponentLink3URL: http://www.onsemi.cn/pub_link/Collateral/318-08.PDF
footprint ONSC-SOT-23-3-318-08_V (SOT23, 3-Leads, Body 2.92x1.3mm, Pitch 0.95mm)
pins: 1 B, 2 E, 3 C

## MMBT3906TT1
designator Q?
General Purpose Transistor, PNP Silicon, 3-Pin SC-75, Tape and Reel; Manufacturer: On Semiconductor; PartNumber: MMBT3906TT1; Note: 0; fT Min (MHz): 250; IC Continuous (A): -0.2; DatasheetVersion: Rev. 1; PackageVersion: Rev. F, 07/2005; PackageReference: SC-75-3-463-01; PackageDescription: 3-Pin Small Outline Transistor, Body 1.6 x 0.8 mm, Pitch 0.5 mm; Packing: Tape and Reel; Polarity: PNP; RoHS: FALSE; Mounting Technology: Surface Mount; ComponentLink1Description: Manufacturer URL; ComponentLink1URL: http://www.onsemi.com/; ComponentLink2Description: Datasheet; ComponentLink2URL: http://www.onsemi.cn/pub_link/Collateral/MMBT3906TT1-D.PDF; ComponentLink3Description: Package Specification; ComponentLink3URL: http://www.onsemi.com/pub_link/Collateral/463-01.PDF
footprint ONSC-SC-75-3-463-01_V (SOT23, 3-Leads, Body 1.6x0.8mm, Pitch 0.5mm)
pins: 1 B, 2 E, 3 C

## MMBT3906TT1G
designator Q?
General Purpose Transistor, PNP Silicon, 3-Pin SC-75, Pb-Free, Tape and Reel; Manufacturer: On Semiconductor; PartNumber: MMBT3906TT1G; fT Min (MHz): 250; IC Continuous (A): -0.2; DatasheetVersion: Rev. 1; PackageVersion: Rev. F, 07/2005; PackageReference: SC-75-3-463-01; PackageDescription: 3-Pin Small Outline Transistor, Body 1.6 x 0.8 mm, Pitch 0.5 mm; Supplier 1: Digi-Key; Supplier Part Number 1: MMBT3906TT1GOSTR-ND; Supplier 2: Digi-Key; Supplier Part Number 2: MMBT3906TT1GOSCT-ND; Supplier 3: Digi-Key; Supplier Part Number 3: MMBT3906TT1GOSDKR-ND; Supplier 4: Farnell; Supplier Part Number 4: 2317824; Supplier 5: Farnell; Supplier Part Number 5: 1704785; Supplier 6: Newark; Supplier Part Number 6: 45P5149; Supplier 7: Newark; Supplier Part Number 7: 45J1534; Supplier 8: Mouser; Supplier Part Number 8: 863-MMBT3906TT1G; Packing: Tape and Reel; Polarity: PNP; RoHS: TRUE; Mounting Technology: Surface Mount; ComponentLink1Description: Manufacturer URL; ComponentLink1URL: http://www.onsemi.com/; ComponentLink2Description: Datasheet; ComponentLink2URL: http://www.onsemi.cn/pub_link/Collateral/MMBT3906TT1-D.PDF; ComponentLink3Description: Package Specification; ComponentLink3URL: http://www.onsemi.com/pub_link/Collateral/463-01.PDF
footprint ONSC-SC-75-3-463-01_V (SOT23, 3-Leads, Body 1.6x0.8mm, Pitch 0.5mm)
pins: 1 B, 2 E, 3 C

## MMBT3906WT1
designator Q?
General Purpose Transistor, PNP Silicon, 3-Pin SC70, Tape and Reel; Manufacturer: On Semiconductor; PartNumber: MMBT3906WT1; fT Min (MHz): 250; IC Continuous (A): -0.2; DatasheetVersion: Rev. 8; PackageVersion: Rev. N, 11/2008; PackageReference: SC-70-3-419-04; PackageDescription: 3-Pin Small Outline Transistor, Body 2 x 1.25 mm, Pitch 0.65 mm; Supplier 1: Digi-Key; Supplier Part Number 1: MMBT3906WT1OSCT-ND; Packing: Tape and Reel; Polarity: PNP; RoHS: FALSE; Mounting Technology: Surface Mount; ComponentLink1Description: Manufacturer URL; ComponentLink1URL: http://www.onsemi.com/; ComponentLink2Description: Datasheet; ComponentLink2URL: http://www.onsemi.cn/pub_link/Collateral/MMBT3904WT1-D.PDF; ComponentLink3Description: Package Specification; ComponentLink3URL: http://www.onsemi.cn/pub_link/Collateral/419-04.PDF
footprint ONSC-SC-70-3-419-04_V (SOT23, 3-Leads, Body 2x1.25mm, Pitch 0.65mm)
pins: 1 B, 2 E, 3 C

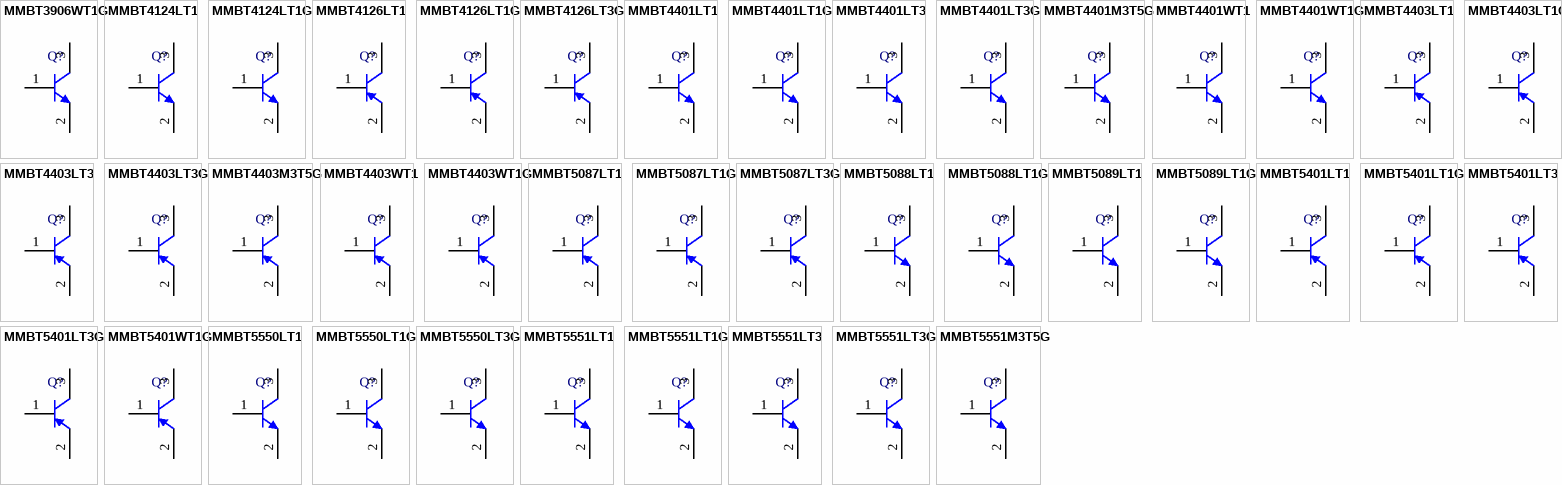
[diagram p28: symbols MMBT3906WT1G to MMBT5551M3T5G]

## MMBT3906WT1G
designator Q?
General Purpose Transistor, PNP Silicon, 3-Pin SC70, Pb-Free, Tape and Reel; Manufacturer: On Semiconductor; PartNumber: MMBT3906WT1G; fT Min (MHz): 250; IC Continuous (A): -0.2; DatasheetVersion: Rev. 8; PackageVersion: Rev. N, 11/2008; PackageReference: SC-70-3-419-04; PackageDescription: 3-Pin Small Outline Transistor, Body 2 x 1.25 mm, Pitch 0.65 mm; Supplier 1: Digi-Key; Supplier Part Number 1: MMBT3906WT1GOSTR-ND; Supplier 2: Digi-Key; Supplier Part Number 2: MMBT3906WT1GOSCT-ND; Supplier 3: Digi-Key; Supplier Part Number 3: MMBT3906WT1GOSDKR-ND; Supplier 4: Farnell; Supplier Part Number 4: 1459104RL; Supplier 5: Farnell; Supplier Part Number 5: 1459104; Supplier 6: Farnell; Supplier Part Number 6: 2370819; Supplier 7: Newark; Supplier Part Number 7: 88H4789; Supplier 8: Newark; Supplier Part Number 8: 67R1340; Supplier 9: Mouser; Supplier Part Number 9: 863-MMBT3906WT1G; Packing: Tape and Reel; Polarity: PNP; RoHS: TRUE; Mounting Technology: Surface Mount; ComponentLink1Description: Manufacturer URL; ComponentLink1URL: http://www.onsemi.com/; ComponentLink2Description: Datasheet; ComponentLink2URL: http://www.onsemi.cn/pub_link/Collateral/MMBT3904WT1-D.PDF; ComponentLink3Description: Package Specification; ComponentLink3URL: http://www.onsemi.cn/pub_link/Collateral/419-04.PDF
footprint ONSC-SC-70-3-419-04_V (SOT23, 3-Leads, Body 2x1.25mm, Pitch 0.65mm)
pins: 1 B, 2 E, 3 C

## MMBT4124LT1
designator Q?
General Purpose Transistor, NPN Silicon, 3-Pin SOT-23, Tape and Reel; Manufacturer: On Semiconductor; PartNumber: MMBT4124LT1; Note: 0; fT Min (MHz): 300; IC Continuous (A): 0.2; DatasheetVersion: Rev. 2; PackageVersion: Rev. AP, 11/2009; PackageReference: SOT-23-3-318-08; PackageDescription: 3-Pin Small Outline Transistor, Body 2.92 x 1.3 mm, Pitch 0.95 mm; Packing: Tape and Reel; Polarity: NPN; RoHS: FALSE; Mounting Technology: Surface Mount; ComponentLink1Description: Manufacturer URL; ComponentLink1URL: http://www.onsemi.com/; ComponentLink2Description: Datasheet; ComponentLink2URL: http://www.onsemi.cn/pub_link/Collateral/MMBT4124LT1-D.PDF; ComponentLink3Description: Package Specification; ComponentLink3URL: http://www.onsemi.cn/pub_link/Collateral/318-08.PDF
footprint ONSC-SOT-23-3-318-08_V (SOT23, 3-Leads, Body 2.92x1.3mm, Pitch 0.95mm)
pins: 1 B, 2 E, 3 C

## MMBT4124LT1G
designator Q?
General Purpose Transistor, NPN Silicon, 3-Pin SOT-23, Pb-Free, Tape and Reel; Manufacturer: On Semiconductor; PartNumber: MMBT4124LT1G; fT Min (MHz): 300; IC Continuous (A): 0.2; DatasheetVersion: Rev. 2; PackageVersion: Rev. AP, 11/2009; PackageReference: SOT-23-3-318-08; PackageDescription: 3-Pin Small Outline Transistor, Body 2.92 x 1.3 mm, Pitch 0.95 mm; Supplier 1: Digi-Key; Supplier Part Number 1: MMBT4124LT1GOSTR-ND; Supplier 2: Digi-Key; Supplier Part Number 2: MMBT4124LT1GOSCT-ND; Supplier 3: Digi-Key; Supplier Part Number 3: MMBT4124LT1GOSDKR-ND; Supplier 4: Farnell; Supplier Part Number 4: 2317863; Supplier 5: Newark; Supplier Part Number 5: 26K4541; Supplier 6: Newark; Supplier Part Number 6: 84K8797; Supplier 7: Mouser; Supplier Part Number 7: 863-MMBT4124LT1G; Packing: Tape and Reel; Polarity: NPN; RoHS: TRUE; Mounting Technology: Surface Mount; ComponentLink1Description: Manufacturer URL; ComponentLink1URL: http://www.onsemi.com/; ComponentLink2Description: Datasheet; ComponentLink2URL: http://www.onsemi.cn/pub_link/Collateral/MMBT4124LT1-D.PDF; ComponentLink3Description: Package Specification; ComponentLink3URL: http://www.onsemi.cn/pub_link/Collateral/318-08.PDF
footprint ONSC-SOT-23-3-318-08_V (SOT23, 3-Leads, Body 2.92x1.3mm, Pitch 0.95mm)
pins: 1 B, 2 E, 3 C

## MMBT4126LT1
designator Q?
General Purpose Transistor, PNP Silicon, 3-Pin SOT-23, Tape and Reel; Manufacturer: On Semiconductor; PartNumber: MMBT4126LT1; fT Min (MHz): 250; IC Continuous (A): -0.2; DatasheetVersion: Rev. 2; PackageVersion: Rev. AP, 11/2009; PackageReference: SOT-23-3-318-08; PackageDescription: 3-Pin Small Outline Transistor, Body 2.92 x 1.3 mm, Pitch 0.95 mm; Supplier 1: Digi-Key; Supplier Part Number 1: MMBT4126LT1OSCT-ND; Packing: Tape and Reel; Polarity: PNP; RoHS: FALSE; Mounting Technology: Surface Mount; ComponentLink1Description: Manufacturer URL; ComponentLink1URL: http://www.onsemi.com/; ComponentLink2Description: Datasheet; ComponentLink2URL: http://www.onsemi.cn/pub_link/Collateral/MMBT4126LT1-D.PDF; ComponentLink3Description: Package Specification; ComponentLink3URL: http://www.onsemi.cn/pub_link/Collateral/318-08.PDF
footprint ONSC-SOT-23-3-318-08_V (SOT23, 3-Leads, Body 2.92x1.3mm, Pitch 0.95mm)
pins: 1 B, 2 E, 3 C

## MMBT4126LT1G
designator Q?
General Purpose Transistor, PNP Silicon, 3-Pin SOT-23, Pb-Free, Tape and Reel; Manufacturer: On Semiconductor; PartNumber: MMBT4126LT1G; fT Min (MHz): 250; IC Continuous (A): -0.2; DatasheetVersion: Rev. 2; PackageVersion: Rev. AP, 11/2009; PackageReference: SOT-23-3-318-08; PackageDescription: 3-Pin Small Outline Transistor, Body 2.92 x 1.3 mm, Pitch 0.95 mm; Supplier 1: Digi-Key; Supplier Part Number 1: MMBT4126LT1GOSTR-ND; Supplier 2: Digi-Key; Supplier Part Number 2: MMBT4126LT1GOSCT-ND; Supplier 3: Digi-Key; Supplier Part Number 3: MMBT4126LT1GOSDKR-ND; Supplier 4: Newark; Supplier Part Number 4: 84K8798; Supplier 5: Mouser; Supplier Part Number 5: 863-MMBT4126LT1G; Packing: Tape and Reel; Polarity: PNP; RoHS: TRUE; Mounting Technology: Surface Mount; ComponentLink1Description: Manufacturer URL; ComponentLink1URL: http://www.onsemi.com/; ComponentLink2Description: Datasheet; ComponentLink2URL: http://www.onsemi.cn/pub_link/Collateral/MMBT4126LT1-D.PDF; ComponentLink3Description: Package Specification; ComponentLink3URL: http://www.onsemi.cn/pub_link/Collateral/318-08.PDF
footprint ONSC-SOT-23-3-318-08_V (SOT23, 3-Leads, Body 2.92x1.3mm, Pitch 0.95mm)
pins: 1 B, 2 E, 3 C

## MMBT4126LT3G
designator Q?
General Purpose Transistor, PNP Silicon, 3-Pin SOT-23, Pb-Free, Tape and Reel; Manufacturer: On Semiconductor; PartNumber: MMBT4126LT3G; fT Min (MHz): 250; IC Continuous (A): -0.2; DatasheetVersion: Rev. 2; PackageVersion: Rev. AP, 11/2009; PackageReference: SOT-23-3-318-08; PackageDescription: 3-Pin Small Outline Transistor, Body 2.92 x 1.3 mm, Pitch 0.95 mm; Supplier 1: Digi-Key; Supplier Part Number 1: MMBT4126LT3G-ND; Supplier 2: Mouser; Supplier Part Number 2: 863-MMBT4126LT3G; Packing: Tape and Reel; Polarity: PNP; RoHS: TRUE; Mounting Technology: Surface Mount; ComponentLink1Description: Manufacturer URL; ComponentLink1URL: http://www.onsemi.com/; ComponentLink2Description: Datasheet; ComponentLink2URL: http://www.onsemi.cn/pub_link/Collateral/MMBT4126LT1-D.PDF; ComponentLink3Description: Package Specification; ComponentLink3URL: http://www.onsemi.cn/pub_link/Collateral/318-08.PDF
footprint ONSC-SOT-23-3-318-08_V (SOT23, 3-Leads, Body 2.92x1.3mm, Pitch 0.95mm)
pins: 1 B, 2 E, 3 C

## MMBT4401LT1
designator Q?
Switching Transistor, NPN Silicon, 3-Pin SOT-23, Tape and Reel; Manufacturer: On Semiconductor; PartNumber: MMBT4401LT1; fT Min (MHz): 250; IC Continuous (A): 0.6; DatasheetVersion: Rev. 10; PackageVersion: Rev. AP, 11/2009; PackageReference: SOT-23-3-318-08; PackageDescription: 3-Pin Small Outline Transistor, Body 2.92 x 1.3 mm, Pitch 0.95 mm; Supplier 1: Digi-Key; Supplier Part Number 1: MMBT4401LT1OSCT-ND; Packing: Tape and Reel; Polarity: NPN; RoHS: FALSE; Mounting Technology: Surface Mount; ComponentLink1Description: Manufacturer URL; ComponentLink1URL: http://www.onsemi.com/; ComponentLink2Description: Datasheet; ComponentLink2URL: http://www.onsemi.cn/pub_link/Collateral/MMBT4401LT1-D.PDF; ComponentLink3Description: Package Specification; ComponentLink3URL: http://www.onsemi.cn/pub_link/Collateral/318-08.PDF
footprint ONSC-SOT-23-3-318-08_V (SOT23, 3-Leads, Body 2.92x1.3mm, Pitch 0.95mm)
pins: 1 B, 2 E, 3 C